# Altium schematic symbol library DFF.SchLib: 1 symbol
Pins are listed as number, name and electrical type; pins without a type are passive.

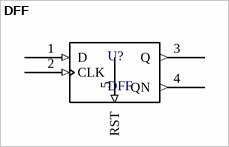
[diagram p0: symbol DFF]

## DFF
designator U?
D Flip-Flop symbol
pins: 1 D (in), 2 CLK (in), 3 Q (out), 4 QN (out), 5 RST (in)